# EAGLE library part PINH2X06 (library pinhead_smd)
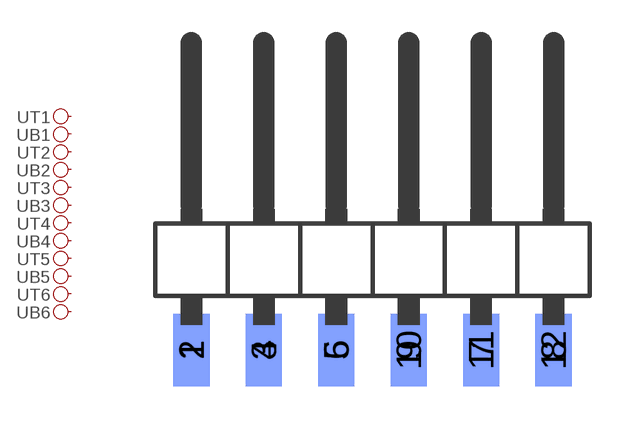
[diagram p3: symbol with the pads of PINH2X06SMD; footprint PINH2X06SMD]

Designator prefix -; gates T1=PINH1X01 B1=PINH1X01 T2=PINH1X01 B2=PINH1X01 T3=PINH1X01 B3=PINH1X01 T4=PINH1X01 B4=PINH1X01 B5=PINH1X01 T5=PINH1X01 T6=PINH1X01 B6=PINH1X01

## PINH2X06  [PINH2X06SMD]
1  T1:1  pas
2  B1:1  pas
3  T2:1  pas
4  B2:1  pas
5  T3:1  pas
6  B3:1  pas
7  T4:1  pas
8  B4:1  pas
9  T5:1  pas
10  B5:1  pas
11  T6:1  pas
12  B6:1  pas

## Footprint PINH2X06SMD (pad centres in mm)
smd 1.27 x 2.54 bottom: 1 -6.35,-1.905; 3 -3.81,-1.905; 5 -1.27,-1.905; 10 1.27,-1.905; 11 3.81,-1.905; 12 6.35,-1.905
smd 1.27 x 2.54: 2 -6.35,-1.905; 4 -3.81,-1.905; 6 -1.27,-1.905; 7 3.81,-1.905; 8 6.35,-1.905; 9 1.27,-1.905